# EAGLE library part AT45DB321D (library memory-atmel)
FLASH MEMORY 32-megabit, 2.7-volt, DataFlash®
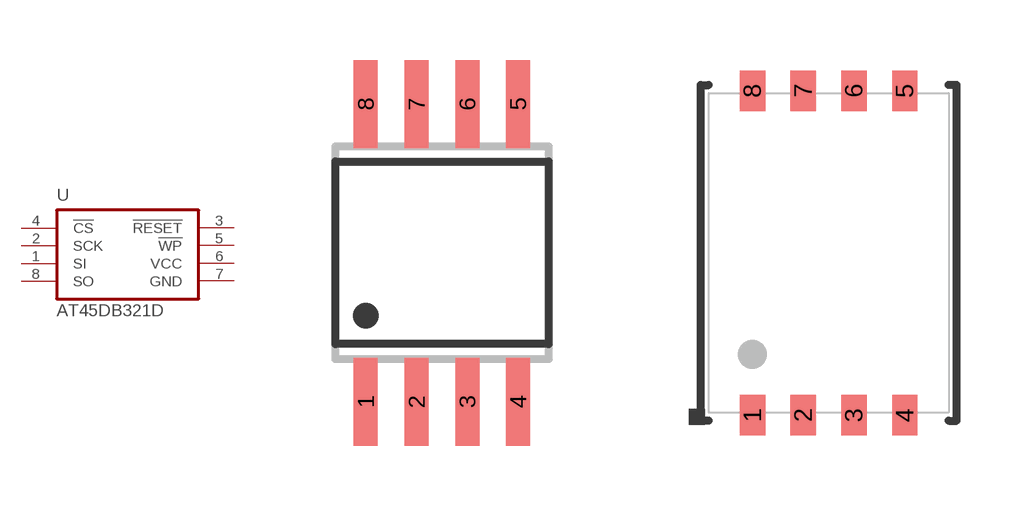
[diagram p12: symbol with the pads of SO08-8S2; footprints SO08-8S2, VDFN-8MW]

Designator prefix U

## AT45DB321D-S  [SO08-8S2]
1  SI  in
2  SCK  in
3  !RESET!  in
4  !CS!  in
5  !WP!  in
6  VCC  pwr
7  GND  pwr
8  SO  out

## AT45DB321D-MW  [VDFN-8MW]
Pads as for SO08-8S2

## AT45DB321D-M  [VDFN-8M1-A]
Pads as for SO08-8S2

## Footprint SO08-8S2 (pad centres in mm)
SMALL OUTLINE INTEGRATED CIRCUIT 8S2 Package (EIAJ), 5.4 mm body
smd 0.6 x 2.2: 1 -1.905,-3.725; 2 -0.635,-3.725; 3 0.635,-3.725; 4 1.905,-3.725; 5 1.905,3.725; 6 0.635,3.725; 7 -0.635,3.725; 8 -1.905,3.725

## Footprint VDFN-8MW (pad centres in mm)
VDFN 8-pad - Very Thin Dual Flat Package 8 x 6 x 1.0 mm Body
smd 0.635 x 1.016: 1 -1.905,-4.06; 2 -0.635,-4.06; 3 0.635,-4.06; 4 1.905,-4.06; 5 1.905,4.06; 6 0.635,4.06; 7 -0.635,4.06; 8 -1.905,4.06

## Footprint VDFN-8M1-A (pad centres in mm)
VDFN 8-pad - Very Thin Dual Flat Package 6 x 5 x 1.00 mm Body
smd 0.635 x 1.27: 1 -1.905,-3.032; 2 -0.635,-3.032; 3 0.635,-3.032; 4 1.905,-3.032; 5 1.905,3.032; 6 0.635,3.032; 7 -0.635,3.032; 8 -1.905,3.032